# Altium integrated library 750317248.IntLib: 1 symbol
Pins are listed as number, name and electrical type; pins without a type are passive.

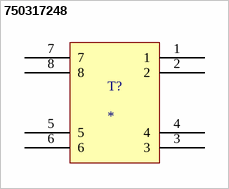
[diagram p0: symbol 750317248]

## 750317248
designator T?
Flyback Transformer
footprint 750317248
pins: 1, 2, 3, 4, 5, 6, 7, 8